# Altium footprint library TP4056.PcbLib: 1 footprints
Each footprint in its own frame and in the unit in brackets; x right, y up, seen from the top. Pads: shape width x height; smd on the part's side, far side on the other; paste and mask are expansions set on the pad; w line width, h text height; cw(c..) or ccw(c..) is an arc to the next point about the centre after c.
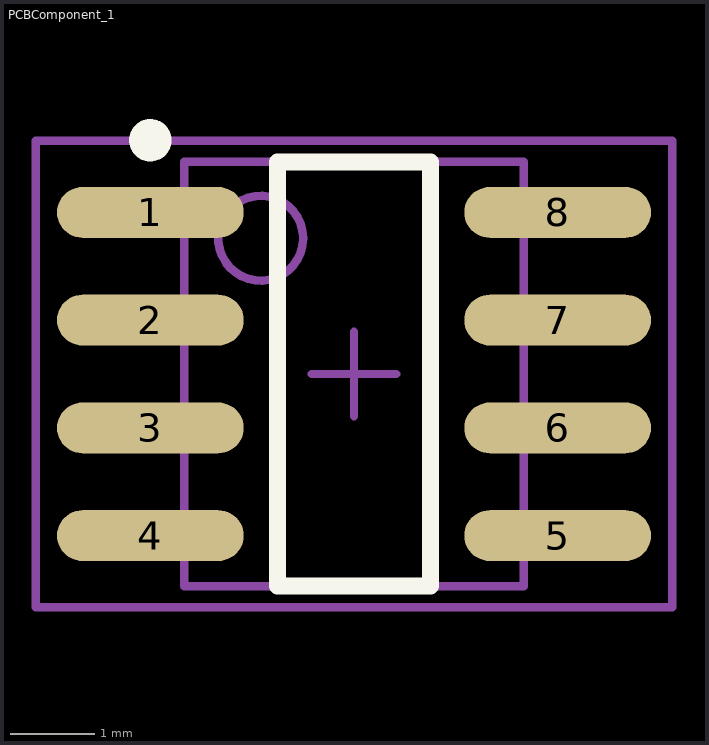
[diagram p0: the footprint, top view; thin cyan lines are the x and y axes]

## PCBComponent_1 [mm]
pads (8):
  oval 2.2x0.6 smd: 1(-1257.808,-1261.237) 2(-1257.808,-1262.507) 3(-1257.808,-1263.777) 4(-1257.808,-1265.047) 5(-1253.008,-1265.047) 6(-1253.008,-1263.777) 7(-1253.008,-1262.507) 8(-1253.008,-1261.237)
Top Overlay:
  circle w0.25: c-1257.808,-1260.387 r0.125
  lines w0.2: -1256.308,-1265.642 -1254.508,-1265.642 -1254.508,-1260.642 -1256.308,-1260.642 -1256.308,-1265.642
Mechanical 13:
  circle w0.1: c-1256.508,-1261.542 r0.5
  lines w0.1: -1257.408,-1265.642 -1253.408,-1265.642 -1253.408,-1260.642 -1257.408,-1260.642 -1257.408,-1265.642
Mechanical 15:
  lines w0.1: -1255.908,-1263.142 -1254.908,-1263.142 ; -1255.408,-1263.642 -1255.408,-1262.642 ; -1259.158,-1265.892 -1251.658,-1265.892 -1251.658,-1260.392 -1259.158,-1260.392 -1259.158,-1265.892
3D body: height 1.75, standoff 0, extent -1258.395,-1265.592 -1252.395,-1260.692